# Altium schematic symbol library Trans_ON_Semi_MMBT5551_eec.SchLib: 1 symbol
Pins are listed as number, name and electrical type; pins without a type are passive.

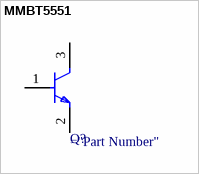
[diagram p0: symbol MMBT5551]

## MMBT5551
designator Q?  (value not drawn)
pins: 1 B, 2 E, 3 C